# Altium footprint library HJQ-15F.PcbLib: 1 footprints
Each footprint in its own frame and in the unit in brackets; x right, y up, seen from the top. Pads: shape width x height; smd on the part's side, far side on the other; paste and mask are expansions set on the pad; w line width, h text height; cw(c..) or ccw(c..) is an arc to the next point about the centre after c.
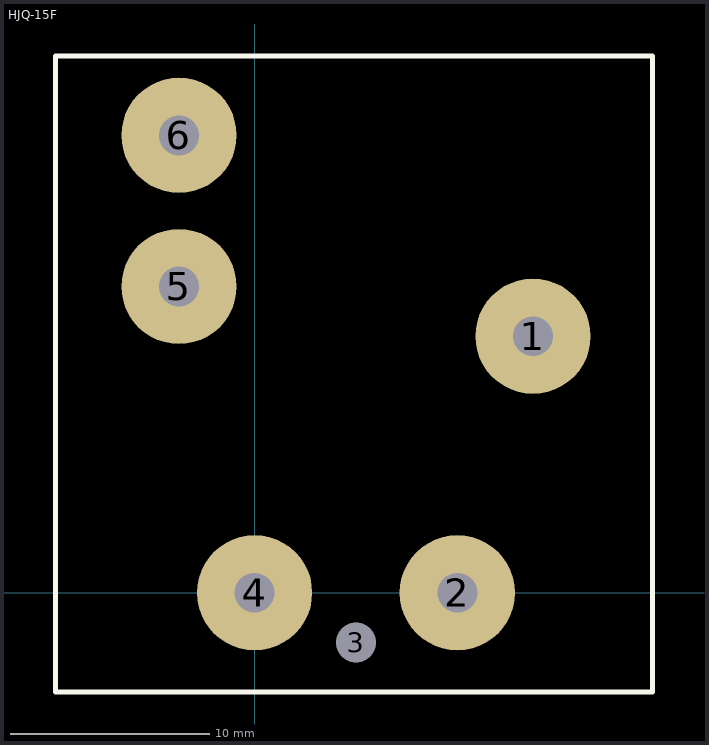
[diagram p0: the footprint, top view; thin cyan lines are the x and y axes]

## HJQ-15F [mm]
pads (6):
  round 5.8 hole 2: 1(14,12.9) 2(10.2,0) 4(0,0) 5(-3.8,15.4) 6(-3.8,23)
  round 1.8 hole 2: 3(5.1,-2.5)
Top Overlay:
  lines w0.254: -10,-5 -10,27 20,27 20,-5 -10,-5